# EAGLE library part GH-82 (library GPS Receivers)
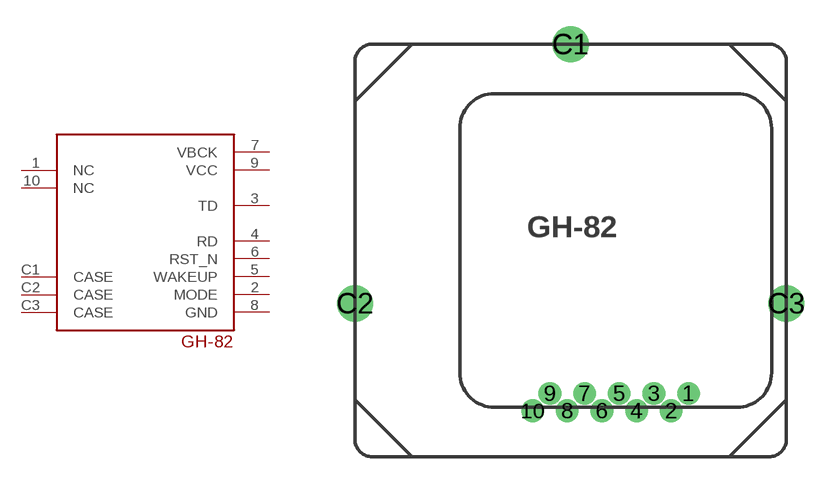
[diagram p0: symbol with the pads of GH-82; footprint GH-82]

Designator prefix U

## GH-82  [GH-82]
1  NC  nc
2  MODE
3  TD  out
4  RD  in
5  WAKEUP  in
6  RST_N  in
7  VBCK  in
8  GND
9  VCC
10  NC  nc
C1  CASE
C2  CASE
C3  CASE

## Footprint GH-82 (pad centres in mm)
drill 0.8 pad 1: 1 6.8,-5.2; 2 5.8,-6.2; 3 4.8,-5.2; 4 3.8,-6.2; 5 2.8,-5.2; 6 1.8,-6.2; 7 0.8,-5.2; 8 -0.2,-6.2; 9 -1.2,-5.2; 10 -2.2,-6.2
drill 1.4: C1 0,14.95; C2 -12.45,0; C3 12.45,0